# Altium footprint library Other.PcbLib: 5 footprints
Each footprint in its own frame and in the unit in brackets; x right, y up, seen from the top. Pads: shape width x height; smd on the part's side, far side on the other; paste and mask are expansions set on the pad; w line width, h text height; cw(c..) or ccw(c..) is an arc to the next point about the centre after c.
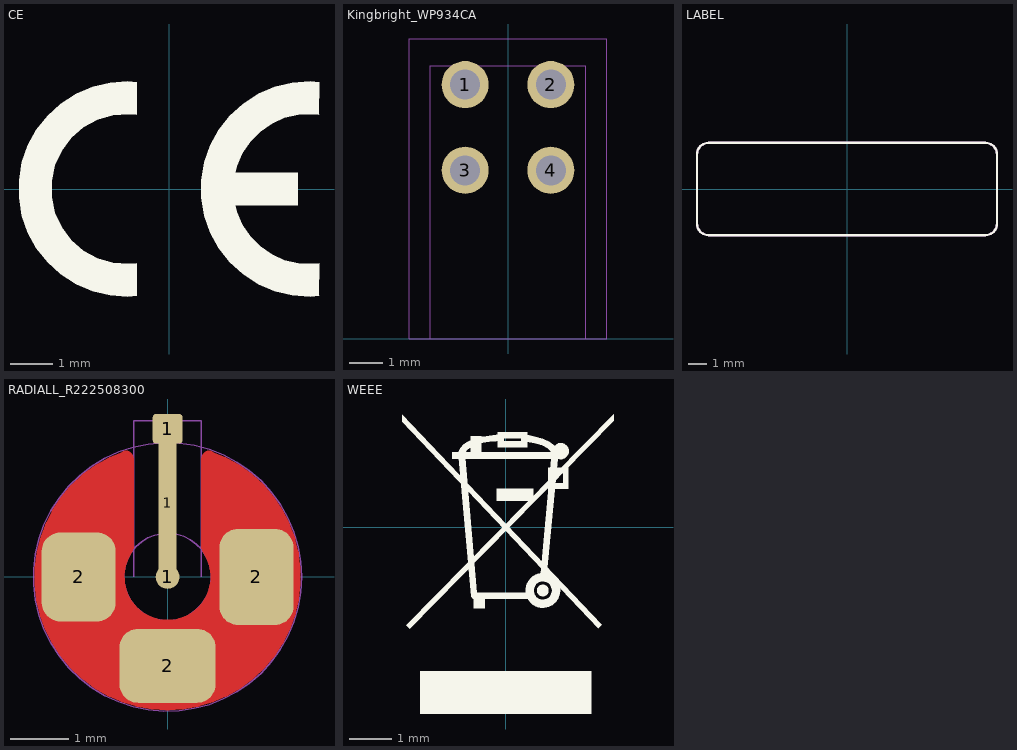
[diagram p0: the footprints below, top view; thin cyan lines are the x and y axes]

## CE [mil]
Top Overlay:
  region: -29.53,-97.93 -37.73,-98.76 -54.18,-97.65 -70.21,-93.83 -85.39,-87.39 -99.28,-78.52 -111.51,-67.46 -121.72,-54.53 -129.65,-40.07 -135.05,-24.5 -137.8,-8.24 -137.8,8.24 -135.05,24.5 -129.65,40.07 -121.72,54.53 -111.51,67.46 -99.28,78.52 -85.39,87.39 -70.21,93.83 -54.18,97.65 -37.73,98.76 -29.53,97.93 -29.53,68.19 -36.88,68.85 -51.57,67.81 -65.71,63.66 -78.65,56.61 -89.78,46.96 -98.62,35.17 -104.74,21.76 -107.87,7.37 -107.87,-7.37 -104.74,-21.76 -98.62,-35.17 -89.78,-46.96 -78.65,-56.61 -65.71,-63.66 -51.57,-67.81 -36.88,-68.85 -29.53,-68.19
  region: 137.8,-68.19 131.38,-68.81 118.5,-68.25 105.96,-65.29 94.19,-60.06 83.6,-52.72 74.56,-43.54 67.39,-32.84 62.33,-20.99 60.66,-14.76 118.11,-14.76 118.11,14.76 60.66,14.76 62.33,20.99 67.39,32.84 74.56,43.54 83.6,52.72 94.19,60.06 105.96,65.29 118.5,68.25 131.38,68.81 137.8,68.19 137.79,68.19 137.8,97.93 129.59,98.76 113.15,97.65 97.11,93.83 81.93,87.39 68.04,78.52 55.81,67.46 45.6,54.53 37.68,40.07 32.27,24.5 29.53,8.24 29.53,-8.24 32.27,-24.5 37.68,-40.07 45.6,-54.53 55.81,-67.46 68.04,-78.52 81.93,-87.39 97.11,-93.83 113.15,-97.65 129.59,-98.76 137.8,-97.93 137.79,-97.93

## Kingbright_WP934CA [mil]
pads (4):
  round 55 hole 35: 1(-50,296.85) 2(50,296.85) 3(-50,196.85) 4(50,196.85)
Mechanical 15:
  lines w1: -115,0 -115,350 115,350 115,0 -115,0
Mechanical 16:
  lines w1: -90.54,0 90.55,0 90.55,318.9 -90.54,318.9 -90.54,0
3D body "WP934CA.STEP": height 380.94, standoff -122.99, extent -90.54,-82.68 114.18,318.9

## LABEL [mil]
Top Overlay:
  lines w5: -325,-75 ccw(c-300,-75) -300,-100 300,-100 ccw(c300,-75) 325,-75 325,75 ccw(c300,75) 300,100 -300,100 ccw(c-300,75) -325,75 -325,-75
Mechanical 5:
  lines w5: -325,-75 ccw(c-300,-75) -300,-100 300,-100 ccw(c300,-75) 325,-75 325,75 ccw(c300,75) 300,100 -300,100 ccw(c-300,75) -325,75 -325,-75
3D body: height 1, standoff 0, extent -325.02,-100.02 325.02,100.02

## RADIALL_R222508300 [mil]
pads (6):
  round 16 smd mask+2: 1(0,0)
  rrect50% 12x110 smd paste-1 mask+2: 1(0,50)
  rrect20% 20x20 smd mask+2: 1(0,100)
  rrect50% 50x60 smd paste-2 mask+2: 2(-60,0)
  rrect50% 65x50 smd paste-2 mask+2: 2(0,-60)
  rrect50% 50x65 smd paste-2 mask+2: 2(60,0)
Top Layer:
  region: 22.83,19 22.83,80 33,80 72,46 83,7 80,-26 51,-72 4,-86 -59,-65 -88,-7 -68,57 -37,80 -22.83,80 -22.83,19 -27,19 -38,-5 -7,-37 31,-21 32,19
  lines w10: -28.29,18.86 ccw(c0,0) 28.29,18.86 ; -28.08,80.23 ccw(c0,0) 28.08,80.23
Top Paste:
  region: -75,-40 -40,-75 -40,-40
  region: 40,-40 75,-40 40,-75
  region: 30,75 30,40 75,40
  region: -30,40 -75,40 -30,75
Mechanical 16:
  circle w1: c0,0 r90.55
  circle w1: c0,0 r29.53
  lines w1: -22.83,0 -22.83,105.51 22.83,105.51 22.83,0
3D body "RADIALL-R222508300.stp": height 198.91, standoff -1.09, extent -81.89,-81.88 81.89,105.52

## WEEE [mil]
Top Overlay:
  drawing of 23 lines, arcs and shapes, not listed